# Altium schematic symbol library MOUSEBITE.Schlib: 1 symbol
Pins are listed as number, name and electrical type; pins without a type are passive.

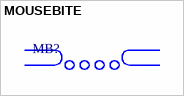
[diagram p0: symbol MOUSEBITE]

## MOUSEBITE
designator MB?  (value not drawn)
PCB Mousebite